# Altium integrated library Atmel Industry Compatible CPLD.IntLib: 281 symbols (part 6 of 13)
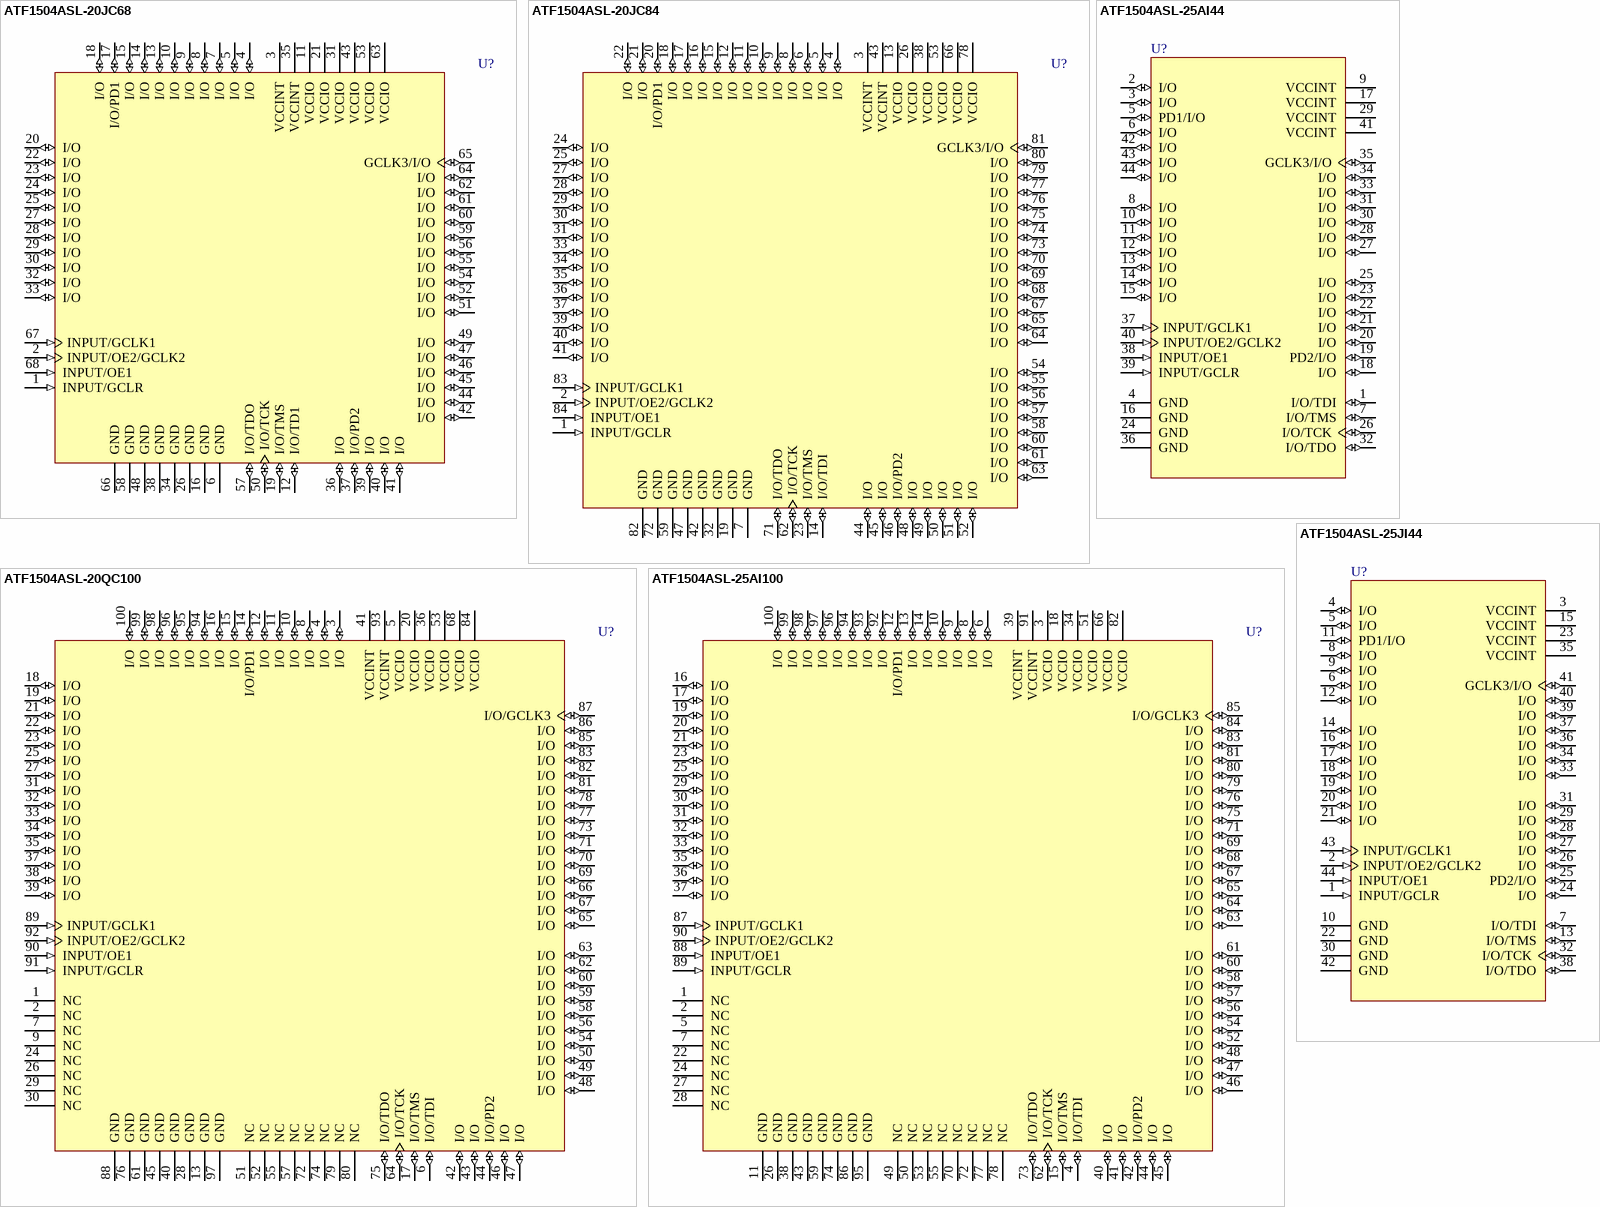
[diagram p55: symbols ATF1504ASL-20JC68 to ATF1504ASL-25JI44]

## ATF1504ASL-20JC68
designator U?
ATF1504AS 5.0V CPLD, 64 Macrocells, 68-Lead PLCC, Speed Grade 20, Commercial Grade; Published: 19-Mar-2004; LatestRevisionDate: 13-Apr-2006; LatestRevisionNote: IPC-7351 Footprint Added.; DatasheetVersion: Rev. 0950N-PLD-07/02; PackageVersion: ver.B, Oct-2001; PackageReference: 68J; Publisher: Altium Limited; PackageDescription: 68-Pin Plastic Leaded Chip Carrier 1.27 mm Pitch; Supplier 1: Digi-Key; Supplier Part Number 1: ATF1504ASL-20JC68-ND; Supplier 2: Mouser; Supplier Part Number 2: 556-ATF1504ASL20JC68; Code_JEDEC: MS-018-AE; Code_IPC: PLCC-68; ComponentLink1Description: Manufacturer Link; ComponentLink1URL: http://www.atmel.com/products/pld/default.asp; ComponentLink2Description: Datasheet; ComponentLink2URL: http://www.atmel.com/dyn/resources/prod_documents/DOC0950.PDF; ComponentLink3Description: Atmel.com Home; ComponentLink3URL: http://www.atmel.com
footprint 68J_N (Leaded Chip Carrier, 68-Leads, Body 24x24mm, Pitch 1.27mm, IPC Medium Density)
footprint 68J_L (Leaded Chip Carrier, 68-Leads, Body 24x24mm, Pitch 1.27mm, IPC High Density)
footprint 68J_M (Leaded Chip Carrier, 68-Leads, Body 24x24mm, Pitch 1.27mm, IPC Low Density)
pins: 1 INPUT/GCLR (in), 2 INPUT/OE2/GCLK2 (in), 3 VCCINT (power), 4 I/O (io), 5 I/O (io), 6 GND (power), 7 I/O (io), 8 I/O (io), 9 I/O (io), 10 I/O (io), 11 VCCIO (power), 12 I/O/TD1 (io), 13 I/O (io), 14 I/O (io), 15 I/O (io), 16 GND (power), 17 I/O/PD1 (io), 18 I/O (io), 19 I/O/TMS (io), 20 I/O (io), 21 VCCIO (power), 22 I/O (io), 23 I/O (io), 24 I/O (io), 25 I/O (io), 26 GND (power), 27 I/O (io), 28 I/O (io), 29 I/O (io), 30 I/O (io), 31 VCCIO (power), 32 I/O (io), 33 I/O (io), 34 GND (power), 35 VCCINT (power), 36 I/O (io), 37 I/O/PD2 (io), 38 GND (power), 39 I/O (io), 40 I/O (io), 41 I/O (io), 42 I/O (io), 43 VCCIO (power), 44 I/O (io), 45 I/O (io), 46 I/O (io), 47 I/O (io), 48 GND (power), 49 I/O (io), 50 I/O/TCK (io), 51 I/O (io), 52 I/O (io), 53 VCCIO (power), 54 I/O (io), 55 I/O (io), 56 I/O (io), 57 I/O/TDO (io), 58 GND (power), 59 I/O (io), 60 I/O (io), 61 I/O (io), 62 I/O (io), 63 VCCIO (power), 64 I/O (io), 65 GCLK3/I/O (io), 66 GND (power), 67 INPUT/GCLK1 (in), 68 INPUT/OE1 (in)

## ATF1504ASL-20JC84
designator U?
ATF1504AS 5.0V CPLD, 64 Macrocells, 84-Lead PLCC, Speed Grade 20, Commercial Grade; Published: 19-Mar-2004; LatestRevisionDate: 13-Apr-2006; LatestRevisionNote: IPC-7351 Footprint Added.; DatasheetVersion: Rev. 0950N-PLD-07/02; PackageVersion: rev.B, Oct-2001; PackageReference: 84J; Publisher: Altium Limited; PackageDescription: 84J, 84-lead, Plastic J-leaded Chip Carrier (PLCC); Supplier 1: Digi-Key; Supplier Part Number 1: ATF1504ASL-20JC84-ND; Supplier 2: Mouser; Supplier Part Number 2: 556-AF1504ASL20JC84; Code_JEDEC: MS-018-AF; Code_IPC: PLCC-84; ComponentLink1Description: Manufacturer Link; ComponentLink1URL: http://www.atmel.com/products/pld/default.asp; ComponentLink2Description: Datasheet; ComponentLink2URL: http://www.atmel.com/dyn/resources/prod_documents/DOC0950.PDF; ComponentLink3Description: Atmel.com Home; ComponentLink3URL: http://www.atmel.com
footprint 84J_N (Leaded Chip Carrier, 84-Leads, Body 29.3x29.3mm, Pitch 1.27mm, IPC Medium Density)
footprint 84J_L (Leaded Chip Carrier, 84-Leads, Body 29.3x29.3mm, Pitch 1.27mm, IPC High Density)
footprint 84J_M (Leaded Chip Carrier, 84-Leads, Body 29.3x29.3mm, Pitch 1.27mm, IPC Low Density)
pins: 1 INPUT/GCLR (in), 2 INPUT/OE2/GCLK2 (in), 3 VCCINT (power), 4 I/O (io), 5 I/O (io), 6 I/O (io), 7 GND (power), 8 I/O (io), 9 I/O (io), 10 I/O (io), 11 I/O (io), 12 I/O (io), 13 VCCIO (power), 14 I/O/TDI (io), 15 I/O (io), 16 I/O (io), 17 I/O (io), 18 I/O (io), 19 GND (power), 20 I/O/PD1 (io), 21 I/O (io), 22 I/O (io), 23 I/O/TMS (io), 24 I/O (io), 25 I/O (io), 26 VCCIO (power), 27 I/O (io), 28 I/O (io), 29 I/O (io), 30 I/O (io), 31 I/O (io), 32 GND (power), 33 I/O (io), 34 I/O (io), 35 I/O (io), 36 I/O (io), 37 I/O (io), 38 VCCIO (power), 39 I/O (io), 40 I/O (io), 41 I/O (io), 42 GND (power), 43 VCCINT (power), 44 I/O (io), 45 I/O (io), 46 I/O/PD2 (io), 47 GND (power), 48 I/O (io), 49 I/O (io), 50 I/O (io), 51 I/O (io), 52 I/O (io), 53 VCCIO (power), 54 I/O (io), 55 I/O (io), 56 I/O (io), 57 I/O (io), 58 I/O (io), 59 GND (power), 60 I/O (io), 61 I/O (io), 62 I/O/TCK (io), 63 I/O (io), 64 I/O (io), 65 I/O (io), 66 VCCIO (power), 67 I/O (io), 68 I/O (io), 69 I/O (io), 70 I/O (io), 71 I/O/TDO (io), 72 GND (power), 73 I/O (io), 74 I/O (io), 75 I/O (io), 76 I/O (io), 77 I/O (io), 78 VCCIO (power), 79 I/O (io), 80 I/O (io), 81 GCLK3/I/O (io), 82 GND (power), 83 INPUT/GCLK1 (in), 84 INPUT/OE1 (in)

## ATF1504ASL-20QC100
designator U?
ATF1504AS 5.0V CPLD, 64 Macrocells, 100-Lead PQFP, Speed Grade 20, Commercial Grade; Published: 19-Mar-2004; LatestRevisionDate: 13-Apr-2006; LatestRevisionNote: IPC-7351 Footprint Added.; DatasheetVersion: Rev. 0950N-PLD-07/02; PackageVersion: rev.B, Sep-2002; PackageReference: 100Q1; Publisher: Altium Limited; PackageDescription: 100-Pin Quad Flat Pack Rectangular 0.65 mm Pitch; Supplier 1: Digi-Key; Supplier Part Number 1: ATF1504ASL20QC100-ND; Supplier 2: Mouser; Supplier Part Number 2: 556-ATF154ASL20QC100; Code_IPC: QFP65P1720X2320-100; ComponentLink1Description: Manufacturer Link; ComponentLink1URL: http://www.atmel.com/products/pld/default.asp; ComponentLink2Description: Datasheet; ComponentLink2URL: http://www.atmel.com/dyn/resources/prod_documents/DOC0950.PDF; ComponentLink3Description: Atmel.com Home; ComponentLink3URL: http://www.atmel.com
footprint 100Q1_N (QFP, 100-Leads, Body 20x14mm, Pitch 0.65mm, IPC Medium Density)
footprint 100Q1_L (QFP, 100-Leads, Body 20x14mm, Pitch 0.65mm, IPC High Density)
footprint 100Q1_M (QFP, 100-Leads, Body 20x14mm, Pitch 0.65mm, IPC Low Density)
pins: 1 NC, 2 NC, 3 I/O (io), 4 I/O (io), 5 VCCIO (power), 6 I/O/TDI (io), 7 NC, 8 I/O (io), 9 NC, 10 I/O (io), 11 I/O (io), 12 I/O (io), 13 GND (power), 14 I/O/PD1 (io), 15 I/O (io), 16 I/O (io), 17 I/O/TMS (io), 18 I/O (io), 19 I/O (io), 20 VCCIO (power), 21 I/O (io), 22 I/O (io), 23 I/O (io), 24 NC, 25 I/O (io), 26 NC, 27 I/O (io), 28 GND (power), 29 NC, 30 NC, 31 I/O (io), 32 I/O (io), 33 I/O (io), 34 I/O (io), 35 I/O (io), 36 VCCIO (power), 37 I/O (io), 38 I/O (io), 39 I/O (io), 40 GND (power), 41 VCCINT (power), 42 I/O (io), 43 I/O (io), 44 I/O/PD2 (io), 45 GND (power), 46 I/O (io), 47 I/O (io), 48 I/O (io), 49 I/O (io), 50 I/O (io), 51 NC, 52 NC, 53 VCCIO (power), 54 I/O (io), 55 NC, 56 I/O (io), 57 NC, 58 I/O (io), 59 I/O (io), 60 I/O (io), 61 GND (power), 62 I/O (io), 63 I/O (io), 64 I/O/TCK (io), 65 I/O (io), 66 I/O (io), 67 I/O (io), 68 VCCIO (power), 69 I/O (io), 70 I/O (io), 71 I/O (io), 72 NC, 73 I/O (io), 74 NC, 75 I/O/TDO (io), 76 GND (power), 77 I/O (io), 78 I/O (io), 79 NC, 80 NC, 81 I/O (io), 82 I/O (io), 83 I/O (io), 84 VCCIO (power), 85 I/O (io), 86 I/O (io), 87 I/O/GCLK3 (io), 88 GND (power), 89 INPUT/GCLK1 (in), 90 INPUT/OE1 (in), 91 INPUT/GCLR (in), 92 INPUT/OE2/GCLK2 (in), 93 VCCINT (power), 94 I/O (io), 95 I/O (io), 96 I/O (io), 97 GND (power), 98 I/O (io), 99 I/O (io), 100 I/O (io)

## ATF1504ASL-25AI44
designator U?
ATF1504AS 5.0V CPLD, 64 Macrocells, 44-Lead TQFP, Speed Grade 20, Industrial Grade; Published: 19-Mar-2004; LatestRevisionDate: 13-Apr-2006; LatestRevisionNote: IPC-7351 Footprint Added.; DatasheetVersion: Rev. 0950N-PLD-07/02; PackageVersion: rev.B, Oct-2001; PackageReference: 44A; Publisher: Altium Limited; PackageDescription: 44-Pin Plastic Thin Profile Quad Flat Pack, 10 x 10 x 1.0 mm Body, 0.8 mm Pitch (TQFP); Supplier 1: Digi-Key; Supplier Part Number 1: ATF1504ASL-25AI44-ND; Supplier 2: Mouser; Supplier Part Number 2: 556-AF1504ASL25AI44; ComponentLink1Description: Manufacturer Link; ComponentLink1URL: http://www.atmel.com/products/pld/default.asp; ComponentLink2Description: Datasheet; ComponentLink2URL: http://www.atmel.com/dyn/resources/prod_documents/DOC0950.PDF; ComponentLink3Description: Atmel.com Home; ComponentLink3URL: http://www.atmel.com
footprint 44A_N (Thin QFP, 44-Leads, Body 10x10mm, Pitch 0.8mm, IPC Medium Density)
footprint 44A_L (Thin QFP, 44-Leads, Body 10x10mm, Pitch 0.8mm, IPC High Density)
footprint 44A_M (Thin QFP, 44-Leads, Body 10x10mm, Pitch 0.8mm, IPC Low Density)
pins: 1 I/O/TDI (io), 2 I/O (io), 3 I/O (io), 4 GND (power), 5 PD1/I/O (io), 6 I/O (io), 7 I/O/TMS (io), 8 I/O (io), 9 VCCINT (power), 10 I/O (io), 11 I/O (io), 12 I/O (io), 13 I/O (io), 14 I/O (io), 15 I/O (io), 16 GND (power), 17 VCCINT (power), 18 I/O (io), 19 PD2/I/O (io), 20 I/O (io), 21 I/O (io), 22 I/O (io), 23 I/O (io), 24 GND (power), 25 I/O (io), 26 I/O/TCK (io), 27 I/O (io), 28 I/O (io), 29 VCCINT (power), 30 I/O (io), 31 I/O (io), 32 I/O/TDO (io), 33 I/O (io), 34 I/O (io), 35 GCLK3/I/O (io), 36 GND (power), 37 INPUT/GCLK1 (in), 38 INPUT/OE1 (in), 39 INPUT/GCLR (in), 40 INPUT/OE2/GCLK2 (in), 41 VCCINT (power), 42 I/O (io), 43 I/O (io), 44 I/O (io)

## ATF1504ASL-25AI100
designator U?
ATF1504AS 5.0V CPLD, 64 Macrocells, 100-Lead TQFP, Speed Grade 20, Industrial Grade; Published: 19-Mar-2004; LatestRevisionDate: 13-Apr-2006; LatestRevisionNote: IPC-7351 Footprint Added.; DatasheetVersion: Rev. 0950N-PLD-07/02; PackageVersion: rev.A, Nov-2001; PackageReference: 100T1; Publisher: Altium Limited; PackageDescription: 100-Pin Thin Quad Flat Pack 0.5 mm Pitch; Supplier 1: Digi-Key; Supplier Part Number 1: ATF1504ASL25AI100-ND; Supplier 2: Mouser; Supplier Part Number 2: 556-AF1504ASL25AI100; Code_JEDEC: MS-026-AED; ComponentLink1Description: Manufacturer Link; ComponentLink1URL: http://www.atmel.com/products/pld/default.asp; ComponentLink2Description: Datasheet; ComponentLink2URL: http://www.atmel.com/dyn/resources/prod_documents/DOC0950.PDF; ComponentLink3Description: Atmel.com Home; ComponentLink3URL: http://www.atmel.com
footprint 100T1_N (Thin QFP, 100-Leads, Body 14x14mm, Pitch 0.5mm, IPC Medium Density)
footprint 100T1_L (Thin QFP, 100-Leads, Body 14x14mm, Pitch 0.5mm, IPC High Density)
footprint 100T1_M (Thin QFP, 100-Leads, Body 14x14mm, Pitch 0.5mm, IPC Low Density)
pins: 1 NC, 2 NC, 3 VCCIO (power), 4 I/O/TDI (io), 5 NC, 6 I/O (io), 7 NC, 8 I/O (io), 9 I/O (io), 10 I/O (io), 11 GND (power), 12 I/O/PD1 (io), 13 I/O (io), 14 I/O (io), 15 I/O/TMS (io), 16 I/O (io), 17 I/O (io), 18 VCCIO (power), 19 I/O (io), 20 I/O (io), 21 I/O (io), 22 NC, 23 I/O (io), 24 NC, 25 I/O (io), 26 GND (power), 27 NC, 28 NC, 29 I/O (io), 30 I/O (io), 31 I/O (io), 32 I/O (io), 33 I/O (io), 34 VCCIO (power), 35 I/O (io), 36 I/O (io), 37 I/O (io), 38 GND (power), 39 VCCINT (power), 40 I/O (io), 41 I/O (io), 42 I/O/PD2 (io), 43 GND (power), 44 I/O (io), 45 I/O (io), 46 I/O (io), 47 I/O (io), 48 I/O (io), 49 NC, 50 NC, 51 VCCIO (power), 52 I/O (io), 53 NC, 54 I/O (io), 55 NC, 56 I/O (io), 57 I/O (io), 58 I/O (io), 59 GND (power), 60 I/O (io), 61 I/O (io), 62 I/O/TCK (io), 63 I/O (io), 64 I/O (io), 65 I/O (io), 66 VCCIO (power), 67 I/O (io), 68 I/O (io), 69 I/O (io), 70 NC, 71 I/O (io), 72 NC, 73 I/O/TDO (io), 74 GND (power), 75 I/O (io), 76 I/O (io), 77 NC, 78 NC, 79 I/O (io), 80 I/O (io), 81 I/O (io), 82 VCCIO (power), 83 I/O (io), 84 I/O (io), 85 I/O/GCLK3 (io), 86 GND (power), 87 INPUT/GCLK1 (in), 88 INPUT/OE1 (in), 89 INPUT/GCLR (in), 90 INPUT/OE2/GCLK2 (in), 91 VCCINT (power), 92 I/O (io), 93 I/O (io), 94 I/O (io), 95 GND (power), 96 I/O (io), 97 I/O (io), 98 I/O (io), 99 I/O (io), 100 I/O (io)

## ATF1504ASL-25JI44
designator U?
ATF1504AS 5.0V CPLD, 64 Macrocells, 44-Lead PLCC, Speed Grade 20, Industrial Grade; Published: 19-Mar-2004; LatestRevisionDate: 13-Apr-2006; LatestRevisionNote: IPC-7351 Footprint Added.; DatasheetVersion: Rev. 0950N-PLD-07/02; PackageVersion: rev.B, Oct-2001; PackageReference: 44J; Publisher: Altium Limited; PackageDescription: 44-Pin Plastic J-Leaded Chip Carrier 1.27 mm Pitch (PLCC); Supplier 1: Digi-Key; Supplier Part Number 1: ATF1504ASL-25JI44-ND; Supplier 2: Mouser; Supplier Part Number 2: 556-AF1504ASL25JI44; Code_JEDEC: MS-018-AC; Code_IPC: PLCC-44; ComponentLink1Description: Manufacturer Link; ComponentLink1URL: http://www.atmel.com/products/pld/default.asp; ComponentLink2Description: Datasheet; ComponentLink2URL: http://www.atmel.com/dyn/resources/prod_documents/DOC0950.PDF; ComponentLink3Description: Atmel.com Home; ComponentLink3URL: http://www.atmel.com
footprint 44J_N (Leaded Chip Carrier, 44-Leads, Body 16.6x16.6mm, Pitch 1.27mm, IPC Medium Density)
footprint 44J_L (Leaded Chip Carrier, 44-Leads, Body 16.6x16.6mm, Pitch 1.27mm, IPC High Density)
footprint 44J_M (Leaded Chip Carrier, 44-Leads, Body 16.6x16.6mm, Pitch 1.27mm, IPC Low Density)
pins: 1 INPUT/GCLR (in), 2 INPUT/OE2/GCLK2 (in), 3 VCCINT (power), 4 I/O (io), 5 I/O (io), 6 I/O (io), 7 I/O/TDI (io), 8 I/O (io), 9 I/O (io), 10 GND (power), 11 PD1/I/O (io), 12 I/O (io), 13 I/O/TMS (io), 14 I/O (io), 15 VCCINT (power), 16 I/O (io), 17 I/O (io), 18 I/O (io), 19 I/O (io), 20 I/O (io), 21 I/O (io), 22 GND (power), 23 VCCINT (power), 24 I/O (io), 25 PD2/I/O (io), 26 I/O (io), 27 I/O (io), 28 I/O (io), 29 I/O (io), 30 GND (power), 31 I/O (io), 32 I/O/TCK (io), 33 I/O (io), 34 I/O (io), 35 VCCINT (power), 36 I/O (io), 37 I/O (io), 38 I/O/TDO (io), 39 I/O (io), 40 I/O (io), 41 GCLK3/I/O (io), 42 GND (power), 43 INPUT/GCLK1 (in), 44 INPUT/OE1 (in)

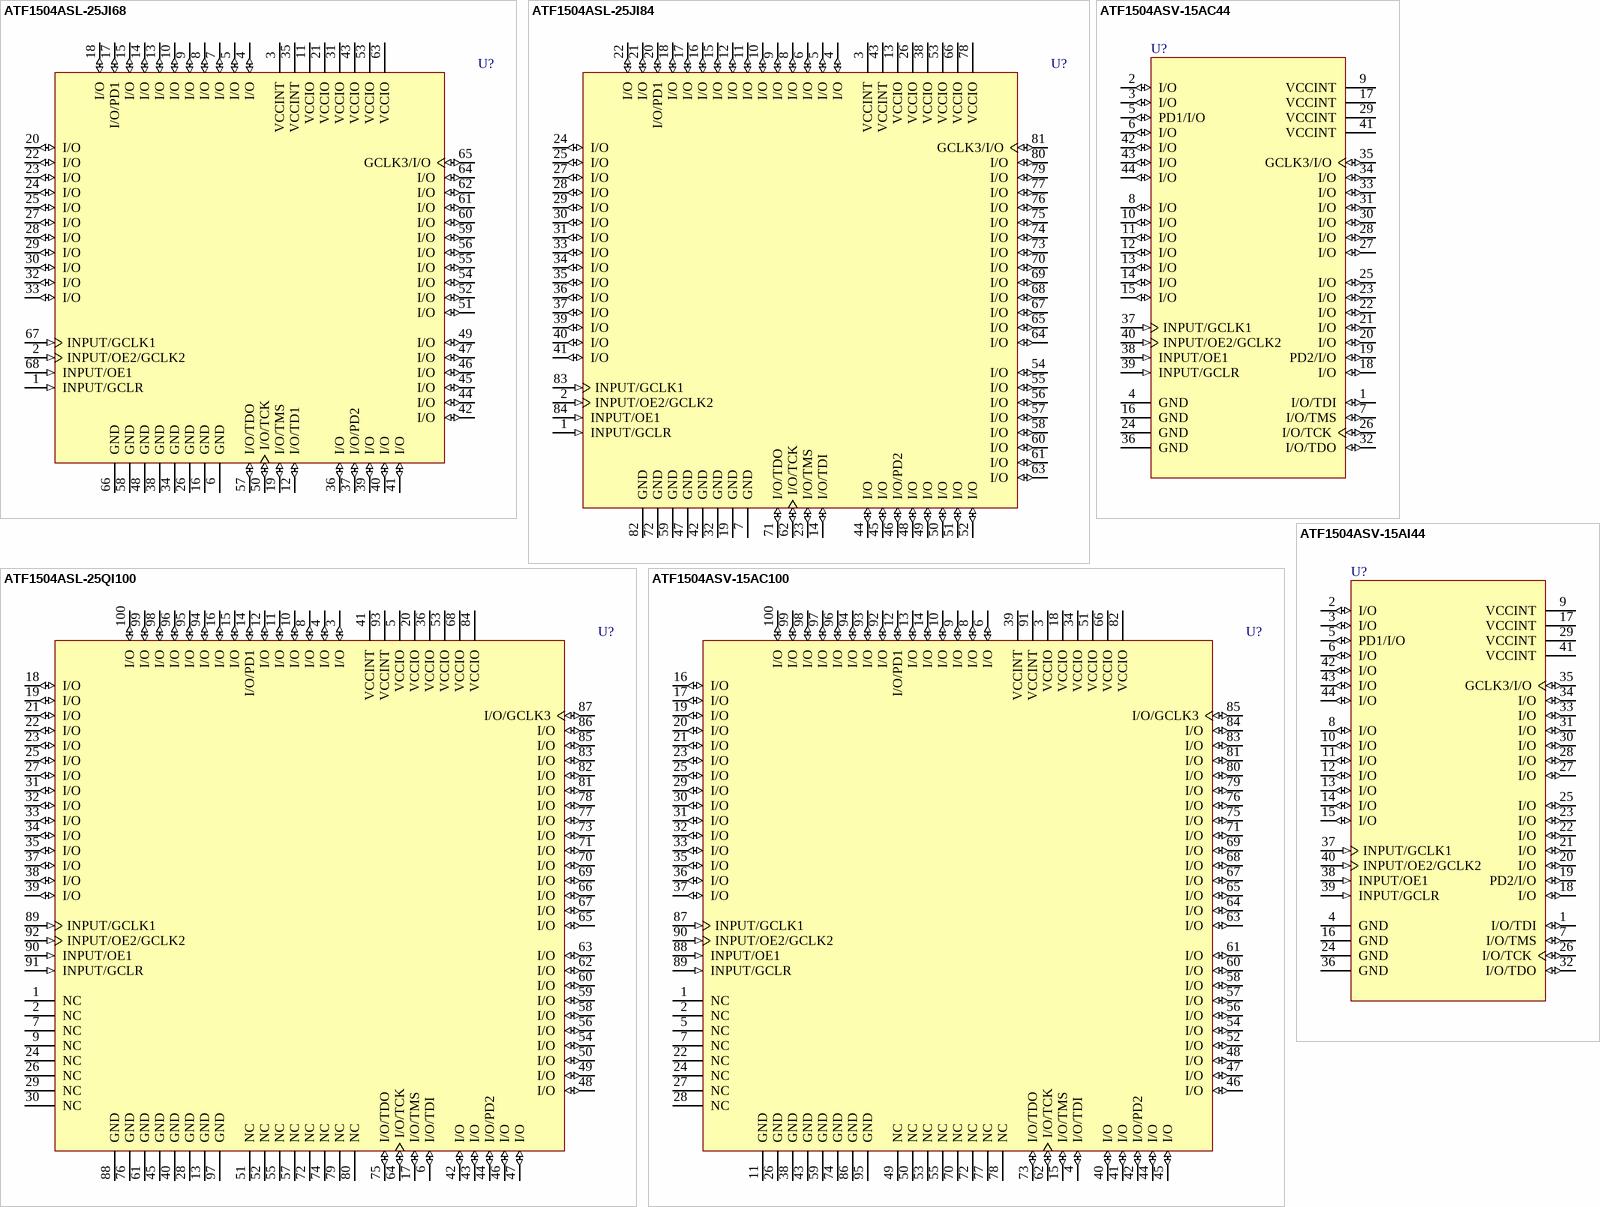
[diagram p14: symbols ATF1504ASL-25JI68 to ATF1504ASV-15AI44]

## ATF1504ASL-25JI68
designator U?
ATF1504AS 5.0V CPLD, 64 Macrocells, 68-Lead PLCC, Speed Grade 20, Industrial Grade; Published: 19-Mar-2004; LatestRevisionDate: 13-Apr-2006; LatestRevisionNote: IPC-7351 Footprint Added.; DatasheetVersion: Rev. 0950N-PLD-07/02; PackageVersion: ver.B, Oct-2001; PackageReference: 68J; Publisher: Altium Limited; PackageDescription: 68-Pin Plastic Leaded Chip Carrier 1.27 mm Pitch; Supplier 1: Digi-Key; Supplier Part Number 1: ATF1504ASL-25JI68-ND; Supplier 2: Mouser; Supplier Part Number 2: 556-ATF1504ASL25JI68; Code_JEDEC: MS-018-AE; Code_IPC: PLCC-68; ComponentLink1Description: Manufacturer Link; ComponentLink1URL: http://www.atmel.com/products/pld/default.asp; ComponentLink2Description: Datasheet; ComponentLink2URL: http://www.atmel.com/dyn/resources/prod_documents/DOC0950.PDF; ComponentLink3Description: Atmel.com Home; ComponentLink3URL: http://www.atmel.com
footprint 68J_N (Leaded Chip Carrier, 68-Leads, Body 24x24mm, Pitch 1.27mm, IPC Medium Density)
footprint 68J_L (Leaded Chip Carrier, 68-Leads, Body 24x24mm, Pitch 1.27mm, IPC High Density)
footprint 68J_M (Leaded Chip Carrier, 68-Leads, Body 24x24mm, Pitch 1.27mm, IPC Low Density)
pins: 1 INPUT/GCLR (in), 2 INPUT/OE2/GCLK2 (in), 3 VCCINT (power), 4 I/O (io), 5 I/O (io), 6 GND (power), 7 I/O (io), 8 I/O (io), 9 I/O (io), 10 I/O (io), 11 VCCIO (power), 12 I/O/TD1 (io), 13 I/O (io), 14 I/O (io), 15 I/O (io), 16 GND (power), 17 I/O/PD1 (io), 18 I/O (io), 19 I/O/TMS (io), 20 I/O (io), 21 VCCIO (power), 22 I/O (io), 23 I/O (io), 24 I/O (io), 25 I/O (io), 26 GND (power), 27 I/O (io), 28 I/O (io), 29 I/O (io), 30 I/O (io), 31 VCCIO (power), 32 I/O (io), 33 I/O (io), 34 GND (power), 35 VCCINT (power), 36 I/O (io), 37 I/O/PD2 (io), 38 GND (power), 39 I/O (io), 40 I/O (io), 41 I/O (io), 42 I/O (io), 43 VCCIO (power), 44 I/O (io), 45 I/O (io), 46 I/O (io), 47 I/O (io), 48 GND (power), 49 I/O (io), 50 I/O/TCK (io), 51 I/O (io), 52 I/O (io), 53 VCCIO (power), 54 I/O (io), 55 I/O (io), 56 I/O (io), 57 I/O/TDO (io), 58 GND (power), 59 I/O (io), 60 I/O (io), 61 I/O (io), 62 I/O (io), 63 VCCIO (power), 64 I/O (io), 65 GCLK3/I/O (io), 66 GND (power), 67 INPUT/GCLK1 (in), 68 INPUT/OE1 (in)

## ATF1504ASL-25JI84
designator U?
ATF1504AS 5.0V CPLD, 64 Macrocells, 84-Lead PLCC, Speed Grade 20, Industrial Grade; Published: 19-Mar-2004; LatestRevisionDate: 13-Apr-2006; LatestRevisionNote: IPC-7351 Footprint Added.; DatasheetVersion: Rev. 0950N-PLD-07/02; PackageVersion: rev.B, Oct-2001; PackageReference: 84J; Publisher: Altium Limited; PackageDescription: 84J, 84-lead, Plastic J-leaded Chip Carrier (PLCC); Supplier 1: Digi-Key; Supplier Part Number 1: ATF1504ASL-25JI84-ND; Supplier 2: Mouser; Supplier Part Number 2: 556-AF1504ASL25JI84; Code_JEDEC: MS-018-AF; Code_IPC: PLCC-84; ComponentLink1Description: Manufacturer Link; ComponentLink1URL: http://www.atmel.com/products/pld/default.asp; ComponentLink2Description: Datasheet; ComponentLink2URL: http://www.atmel.com/dyn/resources/prod_documents/DOC0950.PDF; ComponentLink3Description: Atmel.com Home; ComponentLink3URL: http://www.atmel.com
footprint 84J_N (Leaded Chip Carrier, 84-Leads, Body 29.3x29.3mm, Pitch 1.27mm, IPC Medium Density)
footprint 84J_L (Leaded Chip Carrier, 84-Leads, Body 29.3x29.3mm, Pitch 1.27mm, IPC High Density)
footprint 84J_M (Leaded Chip Carrier, 84-Leads, Body 29.3x29.3mm, Pitch 1.27mm, IPC Low Density)
pins: 1 INPUT/GCLR (in), 2 INPUT/OE2/GCLK2 (in), 3 VCCINT (power), 4 I/O (io), 5 I/O (io), 6 I/O (io), 7 GND (power), 8 I/O (io), 9 I/O (io), 10 I/O (io), 11 I/O (io), 12 I/O (io), 13 VCCIO (power), 14 I/O/TDI (io), 15 I/O (io), 16 I/O (io), 17 I/O (io), 18 I/O (io), 19 GND (power), 20 I/O/PD1 (io), 21 I/O (io), 22 I/O (io), 23 I/O/TMS (io), 24 I/O (io), 25 I/O (io), 26 VCCIO (power), 27 I/O (io), 28 I/O (io), 29 I/O (io), 30 I/O (io), 31 I/O (io), 32 GND (power), 33 I/O (io), 34 I/O (io), 35 I/O (io), 36 I/O (io), 37 I/O (io), 38 VCCIO (power), 39 I/O (io), 40 I/O (io), 41 I/O (io), 42 GND (power), 43 VCCINT (power), 44 I/O (io), 45 I/O (io), 46 I/O/PD2 (io), 47 GND (power), 48 I/O (io), 49 I/O (io), 50 I/O (io), 51 I/O (io), 52 I/O (io), 53 VCCIO (power), 54 I/O (io), 55 I/O (io), 56 I/O (io), 57 I/O (io), 58 I/O (io), 59 GND (power), 60 I/O (io), 61 I/O (io), 62 I/O/TCK (io), 63 I/O (io), 64 I/O (io), 65 I/O (io), 66 VCCIO (power), 67 I/O (io), 68 I/O (io), 69 I/O (io), 70 I/O (io), 71 I/O/TDO (io), 72 GND (power), 73 I/O (io), 74 I/O (io), 75 I/O (io), 76 I/O (io), 77 I/O (io), 78 VCCIO (power), 79 I/O (io), 80 I/O (io), 81 GCLK3/I/O (io), 82 GND (power), 83 INPUT/GCLK1 (in), 84 INPUT/OE1 (in)

## ATF1504ASL-25QI100
designator U?
ATF1504AS 5.0V CPLD, 64 Macrocells, 100-Lead PQFP, Speed Grade 20, Industrial Grade; Published: 19-Mar-2004; LatestRevisionDate: 13-Apr-2006; LatestRevisionNote: IPC-7351 Footprint Added.; DatasheetVersion: Rev. 0950N-PLD-07/02; PackageVersion: rev.B, Sep-2002; PackageReference: 100Q1; Publisher: Altium Limited; PackageDescription: 100-Pin Quad Flat Pack Rectangular 0.65 mm Pitch; Supplier 1: Digi-Key; Supplier Part Number 1: ATF1504ASL25QI100-ND; Code_IPC: QFP65P1720X2320-100; ComponentLink1Description: Manufacturer Link; ComponentLink1URL: http://www.atmel.com/products/pld/default.asp; ComponentLink2Description: Datasheet; ComponentLink2URL: http://www.atmel.com/dyn/resources/prod_documents/DOC0950.PDF; ComponentLink3Description: Atmel.com Home; ComponentLink3URL: http://www.atmel.com
footprint 100Q1_N (QFP, 100-Leads, Body 20x14mm, Pitch 0.65mm, IPC Medium Density)
footprint 100Q1_L (QFP, 100-Leads, Body 20x14mm, Pitch 0.65mm, IPC High Density)
footprint 100Q1_M (QFP, 100-Leads, Body 20x14mm, Pitch 0.65mm, IPC Low Density)
pins: 1 NC, 2 NC, 3 I/O (io), 4 I/O (io), 5 VCCIO (power), 6 I/O/TDI (io), 7 NC, 8 I/O (io), 9 NC, 10 I/O (io), 11 I/O (io), 12 I/O (io), 13 GND (power), 14 I/O/PD1 (io), 15 I/O (io), 16 I/O (io), 17 I/O/TMS (io), 18 I/O (io), 19 I/O (io), 20 VCCIO (power), 21 I/O (io), 22 I/O (io), 23 I/O (io), 24 NC, 25 I/O (io), 26 NC, 27 I/O (io), 28 GND (power), 29 NC, 30 NC, 31 I/O (io), 32 I/O (io), 33 I/O (io), 34 I/O (io), 35 I/O (io), 36 VCCIO (power), 37 I/O (io), 38 I/O (io), 39 I/O (io), 40 GND (power), 41 VCCINT (power), 42 I/O (io), 43 I/O (io), 44 I/O/PD2 (io), 45 GND (power), 46 I/O (io), 47 I/O (io), 48 I/O (io), 49 I/O (io), 50 I/O (io), 51 NC, 52 NC, 53 VCCIO (power), 54 I/O (io), 55 NC, 56 I/O (io), 57 NC, 58 I/O (io), 59 I/O (io), 60 I/O (io), 61 GND (power), 62 I/O (io), 63 I/O (io), 64 I/O/TCK (io), 65 I/O (io), 66 I/O (io), 67 I/O (io), 68 VCCIO (power), 69 I/O (io), 70 I/O (io), 71 I/O (io), 72 NC, 73 I/O (io), 74 NC, 75 I/O/TDO (io), 76 GND (power), 77 I/O (io), 78 I/O (io), 79 NC, 80 NC, 81 I/O (io), 82 I/O (io), 83 I/O (io), 84 VCCIO (power), 85 I/O (io), 86 I/O (io), 87 I/O/GCLK3 (io), 88 GND (power), 89 INPUT/GCLK1 (in), 90 INPUT/OE1 (in), 91 INPUT/GCLR (in), 92 INPUT/OE2/GCLK2 (in), 93 VCCINT (power), 94 I/O (io), 95 I/O (io), 96 I/O (io), 97 GND (power), 98 I/O (io), 99 I/O (io), 100 I/O (io)

## ATF1504ASV-15AC44
designator U?
ATF1504ASV 3.3V CPLD, 64 Macrocells, 44-Lead TQFP, Speed Grade 15, Commercial Grade; Published: 15-Apr-2002; LatestRevisionDate: 13-Apr-2006; LatestRevisionNote: IPC-7351 Footprint Added.; DatasheetVersion: Rev. 1409I-PLD-2/03; PackageVersion: rev.B, Oct-2001; PackageReference: 44A; Publisher: Altium Limited; PackageDescription: 44-Pin Plastic Thin Profile Quad Flat Pack, 10 x 10 x 1.0 mm Body, 0.8 mm Pitch (TQFP); Supplier 1: Digi-Key; Supplier Part Number 1: ATF1504ASV-15AC44-ND; Supplier 2: Mouser; Supplier Part Number 2: 556-AF1504ASV15AC44; ComponentLink1Description: Manufacturer Link; ComponentLink1URL: http://www.atmel.com/products/pld/default.asp; ComponentLink2Description: Datasheet; ComponentLink2URL: http://www.atmel.com/dyn/resources/prod_documents/doc1409.pdf; ComponentLink3Description: Atmel.com Home; ComponentLink3URL: http://www.atmel.com
footprint 44A_N (Thin QFP, 44-Leads, Body 10x10mm, Pitch 0.8mm, IPC Medium Density)
footprint 44A_L (Thin QFP, 44-Leads, Body 10x10mm, Pitch 0.8mm, IPC High Density)
footprint 44A_M (Thin QFP, 44-Leads, Body 10x10mm, Pitch 0.8mm, IPC Low Density)
pins: 1 I/O/TDI (io), 2 I/O (io), 3 I/O (io), 4 GND (power), 5 PD1/I/O (io), 6 I/O (io), 7 I/O/TMS (io), 8 I/O (io), 9 VCCINT (power), 10 I/O (io), 11 I/O (io), 12 I/O (io), 13 I/O (io), 14 I/O (io), 15 I/O (io), 16 GND (power), 17 VCCINT (power), 18 I/O (io), 19 PD2/I/O (io), 20 I/O (io), 21 I/O (io), 22 I/O (io), 23 I/O (io), 24 GND (power), 25 I/O (io), 26 I/O/TCK (io), 27 I/O (io), 28 I/O (io), 29 VCCINT (power), 30 I/O (io), 31 I/O (io), 32 I/O/TDO (io), 33 I/O (io), 34 I/O (io), 35 GCLK3/I/O (io), 36 GND (power), 37 INPUT/GCLK1 (in), 38 INPUT/OE1 (in), 39 INPUT/GCLR (in), 40 INPUT/OE2/GCLK2 (in), 41 VCCINT (power), 42 I/O (io), 43 I/O (io), 44 I/O (io)

## ATF1504ASV-15AC100
designator U?
ATF1504ASV 3.3V CPLD, 64 Macrocells, 100-Lead TQFP, Speed Grade 15, Commercial Grade; Published: 15-Apr-2002; LatestRevisionDate: 13-Apr-2006; LatestRevisionNote: IPC-7351 Footprint Added.; DatasheetVersion: Rev. 1409I-PLD-2/03; PackageVersion: rev.A, Nov-2001; PackageReference: 100T1; Publisher: Altium Limited; PackageDescription: 100-Pin Thin Quad Flat Pack 0.5 mm Pitch; Supplier 1: Digi-Key; Supplier Part Number 1: ATF1504ASV15AC100-ND; Supplier 2: Mouser; Supplier Part Number 2: 556-ATF1504ASV15AC10; Code_JEDEC: MS-026-AED; ComponentLink1Description: Manufacturer Link; ComponentLink1URL: http://www.atmel.com/products/pld/default.asp; ComponentLink2Description: Datasheet; ComponentLink2URL: http://www.atmel.com/dyn/resources/prod_documents/doc1409.pdf; ComponentLink3Description: Atmel.com Home; ComponentLink3URL: http://www.atmel.com
footprint 100T1_N (Thin QFP, 100-Leads, Body 14x14mm, Pitch 0.5mm, IPC Medium Density)
footprint 100T1_L (Thin QFP, 100-Leads, Body 14x14mm, Pitch 0.5mm, IPC High Density)
footprint 100T1_M (Thin QFP, 100-Leads, Body 14x14mm, Pitch 0.5mm, IPC Low Density)
pins: 1 NC, 2 NC, 3 VCCIO (power), 4 I/O/TDI (io), 5 NC, 6 I/O (io), 7 NC, 8 I/O (io), 9 I/O (io), 10 I/O (io), 11 GND (power), 12 I/O/PD1 (io), 13 I/O (io), 14 I/O (io), 15 I/O/TMS (io), 16 I/O (io), 17 I/O (io), 18 VCCIO (power), 19 I/O (io), 20 I/O (io), 21 I/O (io), 22 NC, 23 I/O (io), 24 NC, 25 I/O (io), 26 GND (power), 27 NC, 28 NC, 29 I/O (io), 30 I/O (io), 31 I/O (io), 32 I/O (io), 33 I/O (io), 34 VCCIO (power), 35 I/O (io), 36 I/O (io), 37 I/O (io), 38 GND (power), 39 VCCINT (power), 40 I/O (io), 41 I/O (io), 42 I/O/PD2 (io), 43 GND (power), 44 I/O (io), 45 I/O (io), 46 I/O (io), 47 I/O (io), 48 I/O (io), 49 NC, 50 NC, 51 VCCIO (power), 52 I/O (io), 53 NC, 54 I/O (io), 55 NC, 56 I/O (io), 57 I/O (io), 58 I/O (io), 59 GND (power), 60 I/O (io), 61 I/O (io), 62 I/O/TCK (io), 63 I/O (io), 64 I/O (io), 65 I/O (io), 66 VCCIO (power), 67 I/O (io), 68 I/O (io), 69 I/O (io), 70 NC, 71 I/O (io), 72 NC, 73 I/O/TDO (io), 74 GND (power), 75 I/O (io), 76 I/O (io), 77 NC, 78 NC, 79 I/O (io), 80 I/O (io), 81 I/O (io), 82 VCCIO (power), 83 I/O (io), 84 I/O (io), 85 I/O/GCLK3 (io), 86 GND (power), 87 INPUT/GCLK1 (in), 88 INPUT/OE1 (in), 89 INPUT/GCLR (in), 90 INPUT/OE2/GCLK2 (in), 91 VCCINT (power), 92 I/O (io), 93 I/O (io), 94 I/O (io), 95 GND (power), 96 I/O (io), 97 I/O (io), 98 I/O (io), 99 I/O (io), 100 I/O (io)

## ATF1504ASV-15AI44
designator U?
ATF1504ASV 3.3V CPLD, 64 Macrocells, 44-Lead TQFP, Speed Grade 15, Industrial Grade; Published: 15-Apr-2002; LatestRevisionDate: 13-Apr-2006; LatestRevisionNote: IPC-7351 Footprint Added.; DatasheetVersion: Rev. 1409I-PLD-2/03; PackageVersion: rev.B, Oct-2001; PackageReference: 44A; Publisher: Altium Limited; PackageDescription: 44-Pin Plastic Thin Profile Quad Flat Pack, 10 x 10 x 1.0 mm Body, 0.8 mm Pitch (TQFP); Supplier 1: Digi-Key; Supplier Part Number 1: ATF1504ASV-15AI44-ND; Supplier 2: Mouser; Supplier Part Number 2: 556-F1504ASV-15AI44; ComponentLink1Description: Manufacturer Link; ComponentLink1URL: http://www.atmel.com/products/pld/default.asp; ComponentLink2Description: Datasheet; ComponentLink2URL: http://www.atmel.com/dyn/resources/prod_documents/doc1409.pdf; ComponentLink3Description: Atmel.com Home; ComponentLink3URL: http://www.atmel.com
footprint 44A_N (Thin QFP, 44-Leads, Body 10x10mm, Pitch 0.8mm, IPC Medium Density)
footprint 44A_L (Thin QFP, 44-Leads, Body 10x10mm, Pitch 0.8mm, IPC High Density)
footprint 44A_M (Thin QFP, 44-Leads, Body 10x10mm, Pitch 0.8mm, IPC Low Density)
pins: 1 I/O/TDI (io), 2 I/O (io), 3 I/O (io), 4 GND (power), 5 PD1/I/O (io), 6 I/O (io), 7 I/O/TMS (io), 8 I/O (io), 9 VCCINT (power), 10 I/O (io), 11 I/O (io), 12 I/O (io), 13 I/O (io), 14 I/O (io), 15 I/O (io), 16 GND (power), 17 VCCINT (power), 18 I/O (io), 19 PD2/I/O (io), 20 I/O (io), 21 I/O (io), 22 I/O (io), 23 I/O (io), 24 GND (power), 25 I/O (io), 26 I/O/TCK (io), 27 I/O (io), 28 I/O (io), 29 VCCINT (power), 30 I/O (io), 31 I/O (io), 32 I/O/TDO (io), 33 I/O (io), 34 I/O (io), 35 GCLK3/I/O (io), 36 GND (power), 37 INPUT/GCLK1 (in), 38 INPUT/OE1 (in), 39 INPUT/GCLR (in), 40 INPUT/OE2/GCLK2 (in), 41 VCCINT (power), 42 I/O (io), 43 I/O (io), 44 I/O (io)

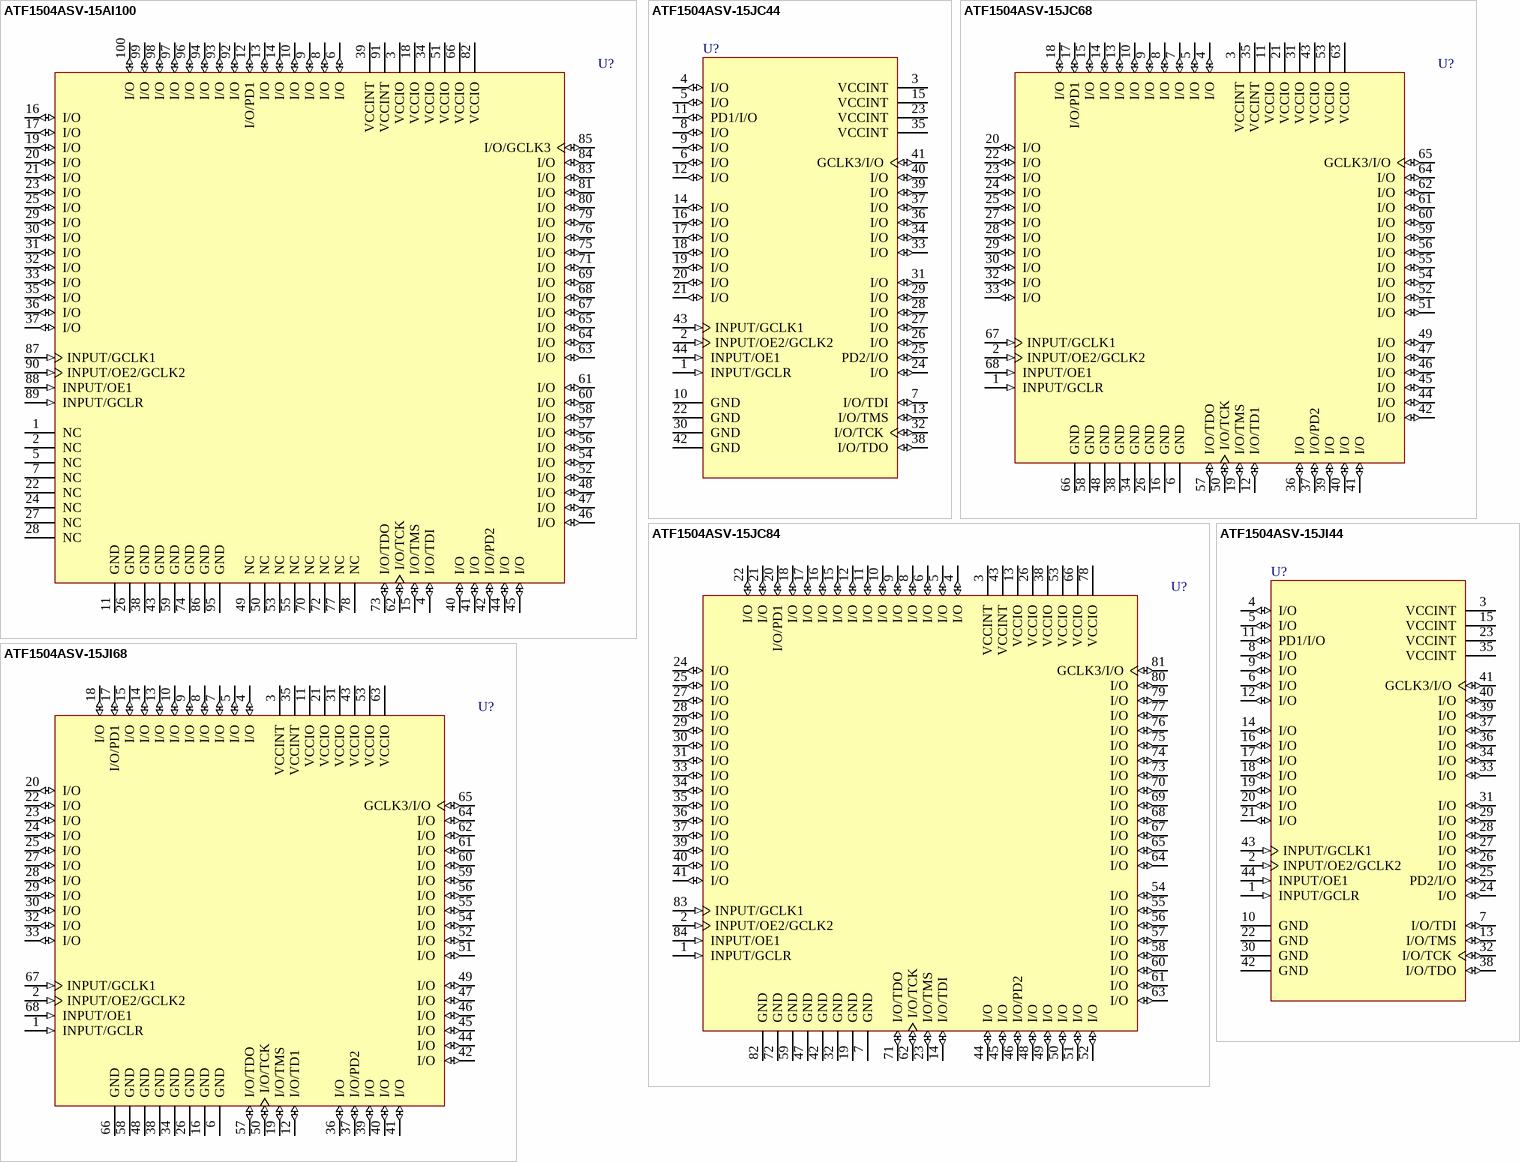
[diagram p15: symbols ATF1504ASV-15AI100 to ATF1504ASV-15JI68]

## ATF1504ASV-15AI100
designator U?
ATF1504ASV 3.3V CPLD, 64 Macrocells, 100-Lead TQFP, Speed Grade 15, Industrial Grade; Published: 15-Apr-2002; LatestRevisionDate: 13-Apr-2006; LatestRevisionNote: IPC-7351 Footprint Added.; DatasheetVersion: Rev. 1409I-PLD-2/03; PackageVersion: rev.A, Nov-2001; PackageReference: 100T1; Publisher: Altium Limited; PackageDescription: 100-Pin Thin Quad Flat Pack 0.5 mm Pitch; Supplier 1: Digi-Key; Supplier Part Number 1: ATF1504ASV15AI100-ND; Supplier 2: Mouser; Supplier Part Number 2: 556-ATF154ASV15AI100; Code_JEDEC: MS-026-AED; ComponentLink1Description: Manufacturer Link; ComponentLink1URL: http://www.atmel.com/products/pld/default.asp; ComponentLink2Description: Datasheet; ComponentLink2URL: http://www.atmel.com/dyn/resources/prod_documents/doc1409.pdf; ComponentLink3Description: Atmel.com Home; ComponentLink3URL: http://www.atmel.com
footprint 100T1_N (Thin QFP, 100-Leads, Body 14x14mm, Pitch 0.5mm, IPC Medium Density)
footprint 100T1_L (Thin QFP, 100-Leads, Body 14x14mm, Pitch 0.5mm, IPC High Density)
footprint 100T1_M (Thin QFP, 100-Leads, Body 14x14mm, Pitch 0.5mm, IPC Low Density)
pins: 1 NC, 2 NC, 3 VCCIO (power), 4 I/O/TDI (io), 5 NC, 6 I/O (io), 7 NC, 8 I/O (io), 9 I/O (io), 10 I/O (io), 11 GND (power), 12 I/O/PD1 (io), 13 I/O (io), 14 I/O (io), 15 I/O/TMS (io), 16 I/O (io), 17 I/O (io), 18 VCCIO (power), 19 I/O (io), 20 I/O (io), 21 I/O (io), 22 NC, 23 I/O (io), 24 NC, 25 I/O (io), 26 GND (power), 27 NC, 28 NC, 29 I/O (io), 30 I/O (io), 31 I/O (io), 32 I/O (io), 33 I/O (io), 34 VCCIO (power), 35 I/O (io), 36 I/O (io), 37 I/O (io), 38 GND (power), 39 VCCINT (power), 40 I/O (io), 41 I/O (io), 42 I/O/PD2 (io), 43 GND (power), 44 I/O (io), 45 I/O (io), 46 I/O (io), 47 I/O (io), 48 I/O (io), 49 NC, 50 NC, 51 VCCIO (power), 52 I/O (io), 53 NC, 54 I/O (io), 55 NC, 56 I/O (io), 57 I/O (io), 58 I/O (io), 59 GND (power), 60 I/O (io), 61 I/O (io), 62 I/O/TCK (io), 63 I/O (io), 64 I/O (io), 65 I/O (io), 66 VCCIO (power), 67 I/O (io), 68 I/O (io), 69 I/O (io), 70 NC, 71 I/O (io), 72 NC, 73 I/O/TDO (io), 74 GND (power), 75 I/O (io), 76 I/O (io), 77 NC, 78 NC, 79 I/O (io), 80 I/O (io), 81 I/O (io), 82 VCCIO (power), 83 I/O (io), 84 I/O (io), 85 I/O/GCLK3 (io), 86 GND (power), 87 INPUT/GCLK1 (in), 88 INPUT/OE1 (in), 89 INPUT/GCLR (in), 90 INPUT/OE2/GCLK2 (in), 91 VCCINT (power), 92 I/O (io), 93 I/O (io), 94 I/O (io), 95 GND (power), 96 I/O (io), 97 I/O (io), 98 I/O (io), 99 I/O (io), 100 I/O (io)

## ATF1504ASV-15JC44
designator U?
ATF1504ASV 3.3V CPLD, 64 Macrocells, 44-Lead PLCC, Speed Grade 15, Commercial Grade; Published: 15-Apr-2002; LatestRevisionDate: 13-Apr-2006; LatestRevisionNote: IPC-7351 Footprint Added.; DatasheetVersion: Rev. 1409I-PLD-2/03; PackageVersion: rev.B, Oct-2001; PackageReference: 44J; Publisher: Altium Limited; PackageDescription: 44-Pin Plastic J-Leaded Chip Carrier 1.27 mm Pitch (PLCC); Supplier 1: Digi-Key; Supplier Part Number 1: ATF1504ASV-15JC44-ND; Supplier 2: Mouser; Supplier Part Number 2: 556-AF1504ASV15JC44; Code_JEDEC: MS-018-AC; Code_IPC: PLCC-44; ComponentLink1Description: Manufacturer Link; ComponentLink1URL: http://www.atmel.com/products/pld/default.asp; ComponentLink2Description: Datasheet; ComponentLink2URL: http://www.atmel.com/dyn/resources/prod_documents/doc1409.pdf; ComponentLink3Description: Atmel.com Home; ComponentLink3URL: http://www.atmel.com
footprint 44J_N (Leaded Chip Carrier, 44-Leads, Body 16.6x16.6mm, Pitch 1.27mm, IPC Medium Density)
footprint 44J_L (Leaded Chip Carrier, 44-Leads, Body 16.6x16.6mm, Pitch 1.27mm, IPC High Density)
footprint 44J_M (Leaded Chip Carrier, 44-Leads, Body 16.6x16.6mm, Pitch 1.27mm, IPC Low Density)
pins: 1 INPUT/GCLR (in), 2 INPUT/OE2/GCLK2 (in), 3 VCCINT (power), 4 I/O (io), 5 I/O (io), 6 I/O (io), 7 I/O/TDI (io), 8 I/O (io), 9 I/O (io), 10 GND (power), 11 PD1/I/O (io), 12 I/O (io), 13 I/O/TMS (io), 14 I/O (io), 15 VCCINT (power), 16 I/O (io), 17 I/O (io), 18 I/O (io), 19 I/O (io), 20 I/O (io), 21 I/O (io), 22 GND (power), 23 VCCINT (power), 24 I/O (io), 25 PD2/I/O (io), 26 I/O (io), 27 I/O (io), 28 I/O (io), 29 I/O (io), 30 GND (power), 31 I/O (io), 32 I/O/TCK (io), 33 I/O (io), 34 I/O (io), 35 VCCINT (power), 36 I/O (io), 37 I/O (io), 38 I/O/TDO (io), 39 I/O (io), 40 I/O (io), 41 GCLK3/I/O (io), 42 GND (power), 43 INPUT/GCLK1 (in), 44 INPUT/OE1 (in)

## ATF1504ASV-15JC68
designator U?
ATF1504ASV 3.3V CPLD, 64 Macrocells, 68-Lead PLCC, Speed Grade 15, Commercial Grade; Published: 15-Apr-2002; LatestRevisionDate: 13-Apr-2006; LatestRevisionNote: IPC-7351 Footprint Added.; DatasheetVersion: Rev. 1409I-PLD-2/03; PackageVersion: ver.B, Oct-2001; PackageReference: 68J; Publisher: Altium Limited; PackageDescription: 68-Pin Plastic Leaded Chip Carrier 1.27 mm Pitch; Supplier 1: Digi-Key; Supplier Part Number 1: ATF1504ASV-15JC68-ND; Supplier 2: Mouser; Supplier Part Number 2: 556-ATF1504ASV15JC68; Code_JEDEC: MS-018-AE; Code_IPC: PLCC-68; ComponentLink1Description: Manufacturer Link; ComponentLink1URL: http://www.atmel.com/products/pld/default.asp; ComponentLink2Description: Datasheet; ComponentLink2URL: http://www.atmel.com/dyn/resources/prod_documents/doc1409.pdf; ComponentLink3Description: Atmel.com Home; ComponentLink3URL: http://www.atmel.com
footprint 68J_N (Leaded Chip Carrier, 68-Leads, Body 24x24mm, Pitch 1.27mm, IPC Medium Density)
footprint 68J_L (Leaded Chip Carrier, 68-Leads, Body 24x24mm, Pitch 1.27mm, IPC High Density)
footprint 68J_M (Leaded Chip Carrier, 68-Leads, Body 24x24mm, Pitch 1.27mm, IPC Low Density)
pins: 1 INPUT/GCLR (in), 2 INPUT/OE2/GCLK2 (in), 3 VCCINT (power), 4 I/O (io), 5 I/O (io), 6 GND (power), 7 I/O (io), 8 I/O (io), 9 I/O (io), 10 I/O (io), 11 VCCIO (power), 12 I/O/TD1 (io), 13 I/O (io), 14 I/O (io), 15 I/O (io), 16 GND (power), 17 I/O/PD1 (io), 18 I/O (io), 19 I/O/TMS (io), 20 I/O (io), 21 VCCIO (power), 22 I/O (io), 23 I/O (io), 24 I/O (io), 25 I/O (io), 26 GND (power), 27 I/O (io), 28 I/O (io), 29 I/O (io), 30 I/O (io), 31 VCCIO (power), 32 I/O (io), 33 I/O (io), 34 GND (power), 35 VCCINT (power), 36 I/O (io), 37 I/O/PD2 (io), 38 GND (power), 39 I/O (io), 40 I/O (io), 41 I/O (io), 42 I/O (io), 43 VCCIO (power), 44 I/O (io), 45 I/O (io), 46 I/O (io), 47 I/O (io), 48 GND (power), 49 I/O (io), 50 I/O/TCK (io), 51 I/O (io), 52 I/O (io), 53 VCCIO (power), 54 I/O (io), 55 I/O (io), 56 I/O (io), 57 I/O/TDO (io), 58 GND (power), 59 I/O (io), 60 I/O (io), 61 I/O (io), 62 I/O (io), 63 VCCIO (power), 64 I/O (io), 65 GCLK3/I/O (io), 66 GND (power), 67 INPUT/GCLK1 (in), 68 INPUT/OE1 (in)

## ATF1504ASV-15JC84
designator U?
ATF1504ASV 3.3V CPLD, 64 Macrocells, 84-Lead PLCC, Speed Grade 15, Commercial Grade; Published: 15-Apr-2002; LatestRevisionDate: 13-Apr-2006; LatestRevisionNote: IPC-7351 Footprint Added.; DatasheetVersion: Rev. 1409I-PLD-2/03; PackageVersion: rev.B, Oct-2001; PackageReference: 84J; Publisher: Altium Limited; PackageDescription: 84J, 84-lead, Plastic J-leaded Chip Carrier (PLCC); Supplier 1: Digi-Key; Supplier Part Number 1: ATF1504ASV-15JC84-ND; Supplier 2: Mouser; Supplier Part Number 2: 556-AF1504ASV15JC84; Code_JEDEC: MS-018-AF; Code_IPC: PLCC-84; ComponentLink1Description: Manufacturer Link; ComponentLink1URL: http://www.atmel.com/products/pld/default.asp; ComponentLink2Description: Datasheet; ComponentLink2URL: http://www.atmel.com/dyn/resources/prod_documents/doc1409.pdf; ComponentLink3Description: Atmel.com Home; ComponentLink3URL: http://www.atmel.com
footprint 84J_N (Leaded Chip Carrier, 84-Leads, Body 29.3x29.3mm, Pitch 1.27mm, IPC Medium Density)
footprint 84J_L (Leaded Chip Carrier, 84-Leads, Body 29.3x29.3mm, Pitch 1.27mm, IPC High Density)
footprint 84J_M (Leaded Chip Carrier, 84-Leads, Body 29.3x29.3mm, Pitch 1.27mm, IPC Low Density)
pins: 1 INPUT/GCLR (in), 2 INPUT/OE2/GCLK2 (in), 3 VCCINT (power), 4 I/O (io), 5 I/O (io), 6 I/O (io), 7 GND (power), 8 I/O (io), 9 I/O (io), 10 I/O (io), 11 I/O (io), 12 I/O (io), 13 VCCIO (power), 14 I/O/TDI (io), 15 I/O (io), 16 I/O (io), 17 I/O (io), 18 I/O (io), 19 GND (power), 20 I/O/PD1 (io), 21 I/O (io), 22 I/O (io), 23 I/O/TMS (io), 24 I/O (io), 25 I/O (io), 26 VCCIO (power), 27 I/O (io), 28 I/O (io), 29 I/O (io), 30 I/O (io), 31 I/O (io), 32 GND (power), 33 I/O (io), 34 I/O (io), 35 I/O (io), 36 I/O (io), 37 I/O (io), 38 VCCIO (power), 39 I/O (io), 40 I/O (io), 41 I/O (io), 42 GND (power), 43 VCCINT (power), 44 I/O (io), 45 I/O (io), 46 I/O/PD2 (io), 47 GND (power), 48 I/O (io), 49 I/O (io), 50 I/O (io), 51 I/O (io), 52 I/O (io), 53 VCCIO (power), 54 I/O (io), 55 I/O (io), 56 I/O (io), 57 I/O (io), 58 I/O (io), 59 GND (power), 60 I/O (io), 61 I/O (io), 62 I/O/TCK (io), 63 I/O (io), 64 I/O (io), 65 I/O (io), 66 VCCIO (power), 67 I/O (io), 68 I/O (io), 69 I/O (io), 70 I/O (io), 71 I/O/TDO (io), 72 GND (power), 73 I/O (io), 74 I/O (io), 75 I/O (io), 76 I/O (io), 77 I/O (io), 78 VCCIO (power), 79 I/O (io), 80 I/O (io), 81 GCLK3/I/O (io), 82 GND (power), 83 INPUT/GCLK1 (in), 84 INPUT/OE1 (in)

## ATF1504ASV-15JI44
designator U?
ATF1504ASV 3.3V CPLD, 64 Macrocells, 44-Lead PLCC, Speed Grade 15, Industrial Grade; Published: 15-Apr-2002; LatestRevisionDate: 13-Apr-2006; LatestRevisionNote: IPC-7351 Footprint Added.; DatasheetVersion: Rev. 1409I-PLD-2/03; PackageVersion: rev.B, Oct-2001; PackageReference: 44J; Publisher: Altium Limited; PackageDescription: 44-Pin Plastic J-Leaded Chip Carrier 1.27 mm Pitch (PLCC); Supplier 1: Digi-Key; Supplier Part Number 1: ATF1504ASV-15JI44-ND; Supplier 2: Mouser; Supplier Part Number 2: 556-AF1504ASV15JI44; Code_JEDEC: MS-018-AC; Code_IPC: PLCC-44; ComponentLink1Description: Manufacturer Link; ComponentLink1URL: http://www.atmel.com/products/pld/default.asp; ComponentLink2Description: Datasheet; ComponentLink2URL: http://www.atmel.com/dyn/resources/prod_documents/doc1409.pdf; ComponentLink3Description: Atmel.com Home; ComponentLink3URL: http://www.atmel.com
footprint 44J_N (Leaded Chip Carrier, 44-Leads, Body 16.6x16.6mm, Pitch 1.27mm, IPC Medium Density)
footprint 44J_L (Leaded Chip Carrier, 44-Leads, Body 16.6x16.6mm, Pitch 1.27mm, IPC High Density)
footprint 44J_M (Leaded Chip Carrier, 44-Leads, Body 16.6x16.6mm, Pitch 1.27mm, IPC Low Density)
pins: 1 INPUT/GCLR (in), 2 INPUT/OE2/GCLK2 (in), 3 VCCINT (power), 4 I/O (io), 5 I/O (io), 6 I/O (io), 7 I/O/TDI (io), 8 I/O (io), 9 I/O (io), 10 GND (power), 11 PD1/I/O (io), 12 I/O (io), 13 I/O/TMS (io), 14 I/O (io), 15 VCCINT (power), 16 I/O (io), 17 I/O (io), 18 I/O (io), 19 I/O (io), 20 I/O (io), 21 I/O (io), 22 GND (power), 23 VCCINT (power), 24 I/O (io), 25 PD2/I/O (io), 26 I/O (io), 27 I/O (io), 28 I/O (io), 29 I/O (io), 30 GND (power), 31 I/O (io), 32 I/O/TCK (io), 33 I/O (io), 34 I/O (io), 35 VCCINT (power), 36 I/O (io), 37 I/O (io), 38 I/O/TDO (io), 39 I/O (io), 40 I/O (io), 41 GCLK3/I/O (io), 42 GND (power), 43 INPUT/GCLK1 (in), 44 INPUT/OE1 (in)

## ATF1504ASV-15JI68
designator U?
ATF1504ASV 3.3V CPLD, 64 Macrocells, 68-Lead PLCC, Speed Grade 15, Industrial Grade; Published: 15-Apr-2002; LatestRevisionDate: 13-Apr-2006; LatestRevisionNote: IPC-7351 Footprint Added.; DatasheetVersion: Rev. 1409I-PLD-2/03; PackageVersion: ver.B, Oct-2001; PackageReference: 68J; Publisher: Altium Limited; PackageDescription: 68-Pin Plastic Leaded Chip Carrier 1.27 mm Pitch; Supplier 1: Digi-Key; Supplier Part Number 1: ATF1504ASV-15JI68-ND; Supplier 2: Mouser; Supplier Part Number 2: 556-ATF1504ASV15JI68; Code_JEDEC: MS-018-AE; Code_IPC: PLCC-68; ComponentLink1Description: Manufacturer Link; ComponentLink1URL: http://www.atmel.com/products/pld/default.asp; ComponentLink2Description: Datasheet; ComponentLink2URL: http://www.atmel.com/dyn/resources/prod_documents/doc1409.pdf; ComponentLink3Description: Atmel.com Home; ComponentLink3URL: http://www.atmel.com
footprint 68J_N (Leaded Chip Carrier, 68-Leads, Body 24x24mm, Pitch 1.27mm, IPC Medium Density)
footprint 68J_L (Leaded Chip Carrier, 68-Leads, Body 24x24mm, Pitch 1.27mm, IPC High Density)
footprint 68J_M (Leaded Chip Carrier, 68-Leads, Body 24x24mm, Pitch 1.27mm, IPC Low Density)
pins: 1 INPUT/GCLR (in), 2 INPUT/OE2/GCLK2 (in), 3 VCCINT (power), 4 I/O (io), 5 I/O (io), 6 GND (power), 7 I/O (io), 8 I/O (io), 9 I/O (io), 10 I/O (io), 11 VCCIO (power), 12 I/O/TD1 (io), 13 I/O (io), 14 I/O (io), 15 I/O (io), 16 GND (power), 17 I/O/PD1 (io), 18 I/O (io), 19 I/O/TMS (io), 20 I/O (io), 21 VCCIO (power), 22 I/O (io), 23 I/O (io), 24 I/O (io), 25 I/O (io), 26 GND (power), 27 I/O (io), 28 I/O (io), 29 I/O (io), 30 I/O (io), 31 VCCIO (power), 32 I/O (io), 33 I/O (io), 34 GND (power), 35 VCCINT (power), 36 I/O (io), 37 I/O/PD2 (io), 38 GND (power), 39 I/O (io), 40 I/O (io), 41 I/O (io), 42 I/O (io), 43 VCCIO (power), 44 I/O (io), 45 I/O (io), 46 I/O (io), 47 I/O (io), 48 GND (power), 49 I/O (io), 50 I/O/TCK (io), 51 I/O (io), 52 I/O (io), 53 VCCIO (power), 54 I/O (io), 55 I/O (io), 56 I/O (io), 57 I/O/TDO (io), 58 GND (power), 59 I/O (io), 60 I/O (io), 61 I/O (io), 62 I/O (io), 63 VCCIO (power), 64 I/O (io), 65 GCLK3/I/O (io), 66 GND (power), 67 INPUT/GCLK1 (in), 68 INPUT/OE1 (in)

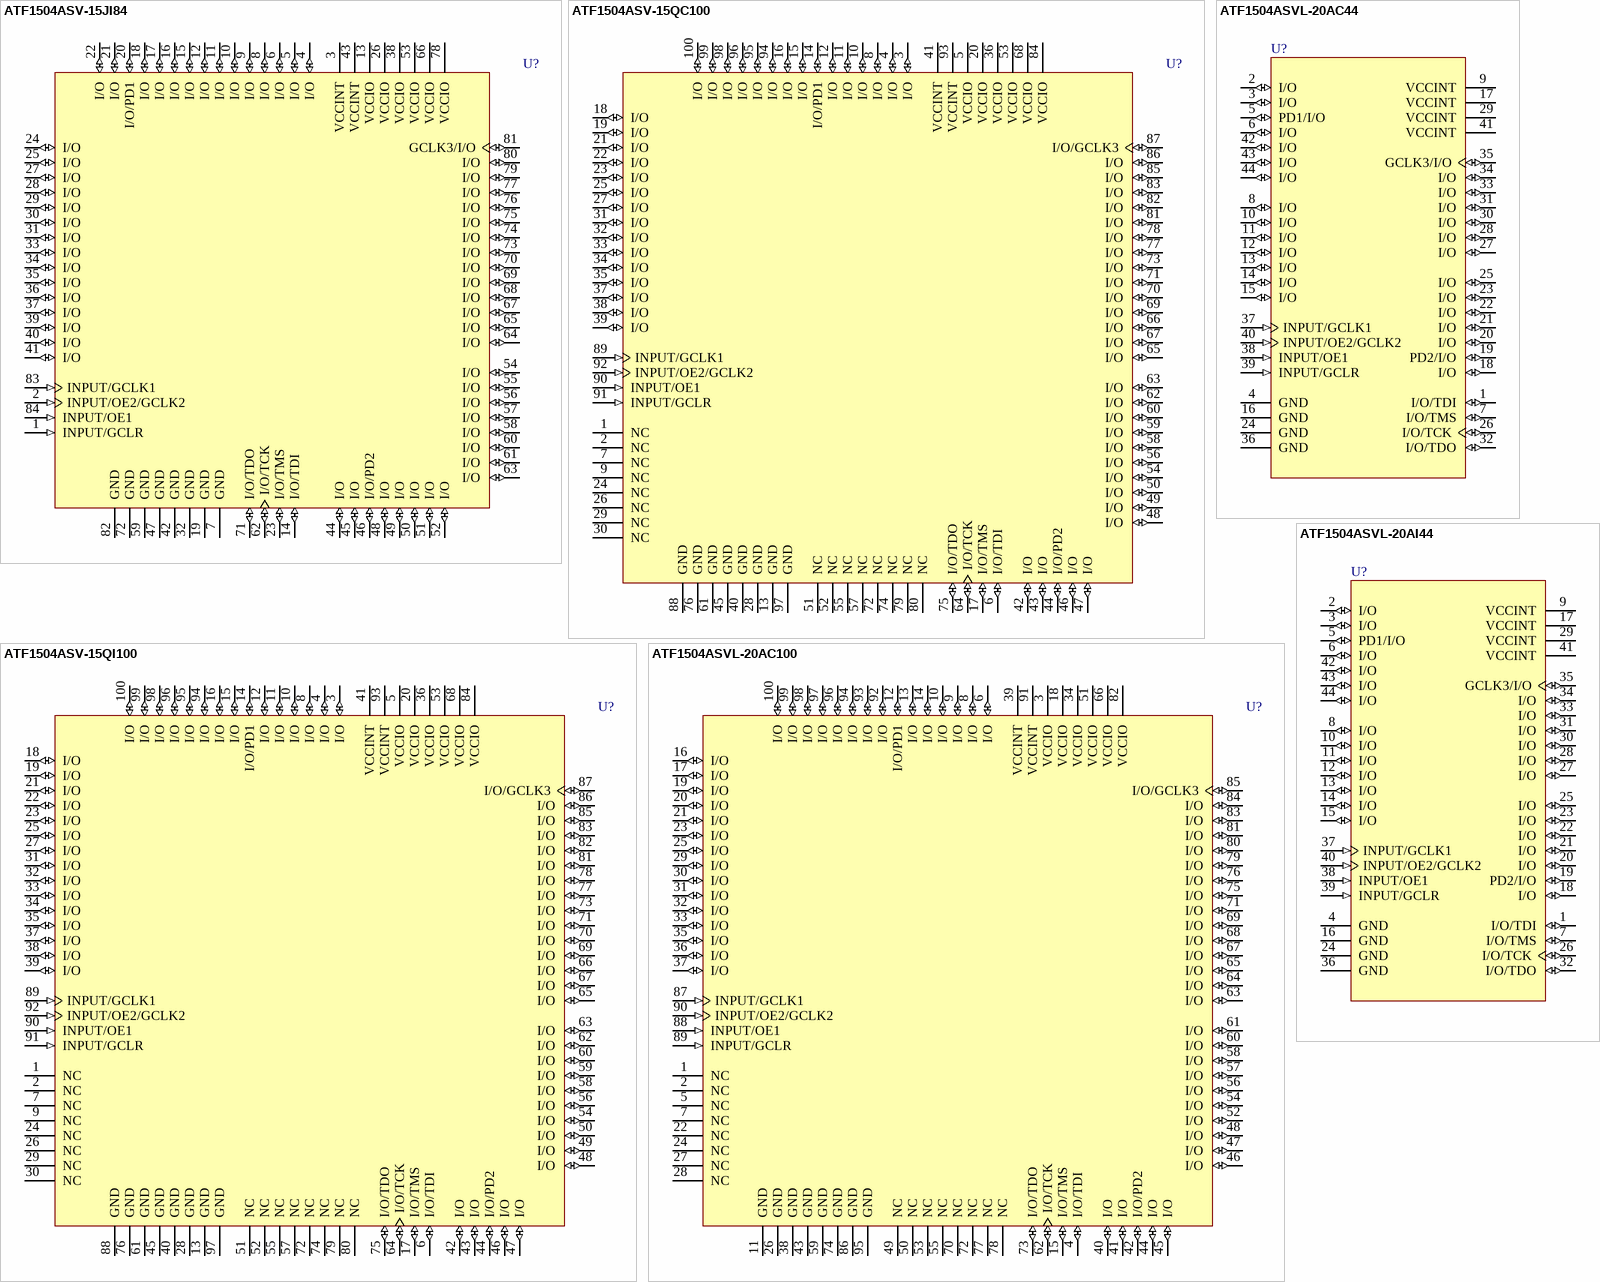
[diagram p16: symbols ATF1504ASV-15JI84 to ATF1504ASVL-20AI44]

## ATF1504ASV-15JI84
designator U?
ATF1504ASV 3.3V CPLD, 64 Macrocells, 84-Lead PLCC, Speed Grade 15, Industrial Grade; Published: 15-Apr-2002; LatestRevisionDate: 13-Apr-2006; LatestRevisionNote: IPC-7351 Footprint Added.; DatasheetVersion: Rev. 1409I-PLD-2/03; PackageVersion: rev.B, Oct-2001; PackageReference: 84J; Publisher: Altium Limited; PackageDescription: 84J, 84-lead, Plastic J-leaded Chip Carrier (PLCC); Supplier 1: Digi-Key; Supplier Part Number 1: ATF1504ASV-15JI84-ND; Supplier 2: Mouser; Supplier Part Number 2: 556-ATF1504ASV15JI84; Code_JEDEC: MS-018-AF; Code_IPC: PLCC-84; ComponentLink1Description: Manufacturer Link; ComponentLink1URL: http://www.atmel.com/products/pld/default.asp; ComponentLink2Description: Datasheet; ComponentLink2URL: http://www.atmel.com/dyn/resources/prod_documents/doc1409.pdf; ComponentLink3Description: Atmel.com Home; ComponentLink3URL: http://www.atmel.com
footprint 84J_N (Leaded Chip Carrier, 84-Leads, Body 29.3x29.3mm, Pitch 1.27mm, IPC Medium Density)
footprint 84J_L (Leaded Chip Carrier, 84-Leads, Body 29.3x29.3mm, Pitch 1.27mm, IPC High Density)
footprint 84J_M (Leaded Chip Carrier, 84-Leads, Body 29.3x29.3mm, Pitch 1.27mm, IPC Low Density)
pins: 1 INPUT/GCLR (in), 2 INPUT/OE2/GCLK2 (in), 3 VCCINT (power), 4 I/O (io), 5 I/O (io), 6 I/O (io), 7 GND (power), 8 I/O (io), 9 I/O (io), 10 I/O (io), 11 I/O (io), 12 I/O (io), 13 VCCIO (power), 14 I/O/TDI (io), 15 I/O (io), 16 I/O (io), 17 I/O (io), 18 I/O (io), 19 GND (power), 20 I/O/PD1 (io), 21 I/O (io), 22 I/O (io), 23 I/O/TMS (io), 24 I/O (io), 25 I/O (io), 26 VCCIO (power), 27 I/O (io), 28 I/O (io), 29 I/O (io), 30 I/O (io), 31 I/O (io), 32 GND (power), 33 I/O (io), 34 I/O (io), 35 I/O (io), 36 I/O (io), 37 I/O (io), 38 VCCIO (power), 39 I/O (io), 40 I/O (io), 41 I/O (io), 42 GND (power), 43 VCCINT (power), 44 I/O (io), 45 I/O (io), 46 I/O/PD2 (io), 47 GND (power), 48 I/O (io), 49 I/O (io), 50 I/O (io), 51 I/O (io), 52 I/O (io), 53 VCCIO (power), 54 I/O (io), 55 I/O (io), 56 I/O (io), 57 I/O (io), 58 I/O (io), 59 GND (power), 60 I/O (io), 61 I/O (io), 62 I/O/TCK (io), 63 I/O (io), 64 I/O (io), 65 I/O (io), 66 VCCIO (power), 67 I/O (io), 68 I/O (io), 69 I/O (io), 70 I/O (io), 71 I/O/TDO (io), 72 GND (power), 73 I/O (io), 74 I/O (io), 75 I/O (io), 76 I/O (io), 77 I/O (io), 78 VCCIO (power), 79 I/O (io), 80 I/O (io), 81 GCLK3/I/O (io), 82 GND (power), 83 INPUT/GCLK1 (in), 84 INPUT/OE1 (in)

## ATF1504ASV-15QC100
designator U?
ATF1504ASV 3.3V CPLD, 64 Macrocells, 100-Lead PQFP, Speed Grade 15, Commercial Grade; Published: 15-Apr-2002; LatestRevisionDate: 13-Apr-2006; LatestRevisionNote: IPC-7351 Footprint Added.; DatasheetVersion: Rev. 1409I-PLD-2/03; PackageVersion: rev.B, Sep-2002; PackageReference: 100Q1; Publisher: Altium Limited; PackageDescription: 100-Pin Quad Flat Pack Rectangular 0.65 mm Pitch; Supplier 1: Digi-Key; Supplier Part Number 1: ATF1504ASV15QC100-ND; Code_IPC: QFP65P1720X2320-100; ComponentLink1Description: Manufacturer Link; ComponentLink1URL: http://www.atmel.com/products/pld/default.asp; ComponentLink2Description: Datasheet; ComponentLink2URL: http://www.atmel.com/dyn/resources/prod_documents/doc1409.pdf; ComponentLink3Description: Atmel.com Home; ComponentLink3URL: http://www.atmel.com
footprint 100Q1_N (QFP, 100-Leads, Body 20x14mm, Pitch 0.65mm, IPC Medium Density)
footprint 100Q1_L (QFP, 100-Leads, Body 20x14mm, Pitch 0.65mm, IPC High Density)
footprint 100Q1_M (QFP, 100-Leads, Body 20x14mm, Pitch 0.65mm, IPC Low Density)
pins: 1 NC, 2 NC, 3 I/O (io), 4 I/O (io), 5 VCCIO (power), 6 I/O/TDI (io), 7 NC, 8 I/O (io), 9 NC, 10 I/O (io), 11 I/O (io), 12 I/O (io), 13 GND (power), 14 I/O/PD1 (io), 15 I/O (io), 16 I/O (io), 17 I/O/TMS (io), 18 I/O (io), 19 I/O (io), 20 VCCIO (power), 21 I/O (io), 22 I/O (io), 23 I/O (io), 24 NC, 25 I/O (io), 26 NC, 27 I/O (io), 28 GND (power), 29 NC, 30 NC, 31 I/O (io), 32 I/O (io), 33 I/O (io), 34 I/O (io), 35 I/O (io), 36 VCCIO (power), 37 I/O (io), 38 I/O (io), 39 I/O (io), 40 GND (power), 41 VCCINT (power), 42 I/O (io), 43 I/O (io), 44 I/O/PD2 (io), 45 GND (power), 46 I/O (io), 47 I/O (io), 48 I/O (io), 49 I/O (io), 50 I/O (io), 51 NC, 52 NC, 53 VCCIO (power), 54 I/O (io), 55 NC, 56 I/O (io), 57 NC, 58 I/O (io), 59 I/O (io), 60 I/O (io), 61 GND (power), 62 I/O (io), 63 I/O (io), 64 I/O/TCK (io), 65 I/O (io), 66 I/O (io), 67 I/O (io), 68 VCCIO (power), 69 I/O (io), 70 I/O (io), 71 I/O (io), 72 NC, 73 I/O (io), 74 NC, 75 I/O/TDO (io), 76 GND (power), 77 I/O (io), 78 I/O (io), 79 NC, 80 NC, 81 I/O (io), 82 I/O (io), 83 I/O (io), 84 VCCIO (power), 85 I/O (io), 86 I/O (io), 87 I/O/GCLK3 (io), 88 GND (power), 89 INPUT/GCLK1 (in), 90 INPUT/OE1 (in), 91 INPUT/GCLR (in), 92 INPUT/OE2/GCLK2 (in), 93 VCCINT (power), 94 I/O (io), 95 I/O (io), 96 I/O (io), 97 GND (power), 98 I/O (io), 99 I/O (io), 100 I/O (io)

## ATF1504ASV-15QI100
designator U?
ATF1504ASV 3.3V CPLD, 64 Macrocells, 100-Lead PQFP, Speed Grade 15, Industrial Grade; Published: 15-Apr-2002; LatestRevisionDate: 13-Apr-2006; LatestRevisionNote: IPC-7351 Footprint Added.; DatasheetVersion: Rev. 1409I-PLD-2/03; PackageVersion: rev.B, Sep-2002; PackageReference: 100Q1; Publisher: Altium Limited; PackageDescription: 100-Pin Quad Flat Pack Rectangular 0.65 mm Pitch; Supplier 1: Digi-Key; Supplier Part Number 1: ATF1504ASV15QI100-ND; Code_IPC: QFP65P1720X2320-100; ComponentLink1Description: Manufacturer Link; ComponentLink1URL: http://www.atmel.com/products/pld/default.asp; ComponentLink2Description: Datasheet; ComponentLink2URL: http://www.atmel.com/dyn/resources/prod_documents/doc1409.pdf; ComponentLink3Description: Atmel.com Home; ComponentLink3URL: http://www.atmel.com
footprint 100Q1_N (QFP, 100-Leads, Body 20x14mm, Pitch 0.65mm, IPC Medium Density)
footprint 100Q1_L (QFP, 100-Leads, Body 20x14mm, Pitch 0.65mm, IPC High Density)
footprint 100Q1_M (QFP, 100-Leads, Body 20x14mm, Pitch 0.65mm, IPC Low Density)
pins: 1 NC, 2 NC, 3 I/O (io), 4 I/O (io), 5 VCCIO (power), 6 I/O/TDI (io), 7 NC, 8 I/O (io), 9 NC, 10 I/O (io), 11 I/O (io), 12 I/O (io), 13 GND (power), 14 I/O/PD1 (io), 15 I/O (io), 16 I/O (io), 17 I/O/TMS (io), 18 I/O (io), 19 I/O (io), 20 VCCIO (power), 21 I/O (io), 22 I/O (io), 23 I/O (io), 24 NC, 25 I/O (io), 26 NC, 27 I/O (io), 28 GND (power), 29 NC, 30 NC, 31 I/O (io), 32 I/O (io), 33 I/O (io), 34 I/O (io), 35 I/O (io), 36 VCCIO (power), 37 I/O (io), 38 I/O (io), 39 I/O (io), 40 GND (power), 41 VCCINT (power), 42 I/O (io), 43 I/O (io), 44 I/O/PD2 (io), 45 GND (power), 46 I/O (io), 47 I/O (io), 48 I/O (io), 49 I/O (io), 50 I/O (io), 51 NC, 52 NC, 53 VCCIO (power), 54 I/O (io), 55 NC, 56 I/O (io), 57 NC, 58 I/O (io), 59 I/O (io), 60 I/O (io), 61 GND (power), 62 I/O (io), 63 I/O (io), 64 I/O/TCK (io), 65 I/O (io), 66 I/O (io), 67 I/O (io), 68 VCCIO (power), 69 I/O (io), 70 I/O (io), 71 I/O (io), 72 NC, 73 I/O (io), 74 NC, 75 I/O/TDO (io), 76 GND (power), 77 I/O (io), 78 I/O (io), 79 NC, 80 NC, 81 I/O (io), 82 I/O (io), 83 I/O (io), 84 VCCIO (power), 85 I/O (io), 86 I/O (io), 87 I/O/GCLK3 (io), 88 GND (power), 89 INPUT/GCLK1 (in), 90 INPUT/OE1 (in), 91 INPUT/GCLR (in), 92 INPUT/OE2/GCLK2 (in), 93 VCCINT (power), 94 I/O (io), 95 I/O (io), 96 I/O (io), 97 GND (power), 98 I/O (io), 99 I/O (io), 100 I/O (io)

## ATF1504ASVL-20AC44
designator U?
ATF1504ASVL 3.3V CPLD, 64 Macrocells, 44-Lead TQFP, Speed Grade 20, Commercial Grade; Published: 15-Apr-2002; LatestRevisionDate: 13-Apr-2006; LatestRevisionNote: IPC-7351 Footprint Added.; DatasheetVersion: Rev. 1409I-PLD-2/03; PackageVersion: rev.B, Oct-2001; PackageReference: 44A; Publisher: Altium Limited; PackageDescription: 44-Pin Plastic Thin Profile Quad Flat Pack, 10 x 10 x 1.0 mm Body, 0.8 mm Pitch (TQFP); Supplier 1: Digi-Key; Supplier Part Number 1: ATF1504ASVL20AC44-ND; Supplier 2: Mouser; Supplier Part Number 2: 556-F1504ASVL20AC44; ComponentLink1Description: Manufacturer Link; ComponentLink1URL: http://www.atmel.com/products/pld/default.asp; ComponentLink2Description: Datasheet; ComponentLink2URL: http://www.atmel.com/dyn/resources/prod_documents/doc1409.pdf; ComponentLink3Description: Atmel.com Home; ComponentLink3URL: http://www.atmel.com
footprint 44A_N (Thin QFP, 44-Leads, Body 10x10mm, Pitch 0.8mm, IPC Medium Density)
footprint 44A_L (Thin QFP, 44-Leads, Body 10x10mm, Pitch 0.8mm, IPC High Density)
footprint 44A_M (Thin QFP, 44-Leads, Body 10x10mm, Pitch 0.8mm, IPC Low Density)
pins: 1 I/O/TDI (io), 2 I/O (io), 3 I/O (io), 4 GND (power), 5 PD1/I/O (io), 6 I/O (io), 7 I/O/TMS (io), 8 I/O (io), 9 VCCINT (power), 10 I/O (io), 11 I/O (io), 12 I/O (io), 13 I/O (io), 14 I/O (io), 15 I/O (io), 16 GND (power), 17 VCCINT (power), 18 I/O (io), 19 PD2/I/O (io), 20 I/O (io), 21 I/O (io), 22 I/O (io), 23 I/O (io), 24 GND (power), 25 I/O (io), 26 I/O/TCK (io), 27 I/O (io), 28 I/O (io), 29 VCCINT (power), 30 I/O (io), 31 I/O (io), 32 I/O/TDO (io), 33 I/O (io), 34 I/O (io), 35 GCLK3/I/O (io), 36 GND (power), 37 INPUT/GCLK1 (in), 38 INPUT/OE1 (in), 39 INPUT/GCLR (in), 40 INPUT/OE2/GCLK2 (in), 41 VCCINT (power), 42 I/O (io), 43 I/O (io), 44 I/O (io)